# Altium integrated library CC3_1205SR-E.IntLib: 1 symbol
Pins are listed as number, name and electrical type; pins without a type are passive.

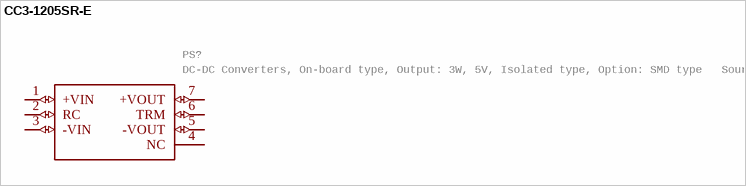
[diagram p0: symbol CC3-1205SR-E]

## CC3-1205SR-E
designator PS?, comment DC-DC Converters, On-board type, Output: 3W, 5V, Isolated type, Option: SMD type   Source:  Datasheet
Manufacturer_Name: TDK Lambda; GateName_1: G$1; SymbolName_1: CC3-1205SR-E; LibraryName: CC3-1205SR-E; DeviceSetName: CC3-1205SR-E; Package: CC31205SRE; Mouser_Part_Number: 967-CC3-1205SR-E; Mouser_Price-Stock: https://www.mouser.co.uk/ProductDetail/TDK-Lambda/CC3-1205SR-E?qs=Vwh6e7toGLhKhB1folAdsg%3D%3D; Manufacturer_Part_Number: CC3-1205SR-E; Description: DC-DC Converters, On-board type, Output: 3W, 5V, Isolated type, Option: SMD type; Height: 8.8mm
footprint CC31205SRE
pins: 1 +VIN (io), 2 RC (io), 3 -VIN (io), 4 NC, 5 -VOUT (io), 6 TRM (io), 7 +VOUT (io)